# Altium integrated library TI Power Management LDO Single Channel(400-7500mA).IntLib: 1409 symbols (part 60 of 60)
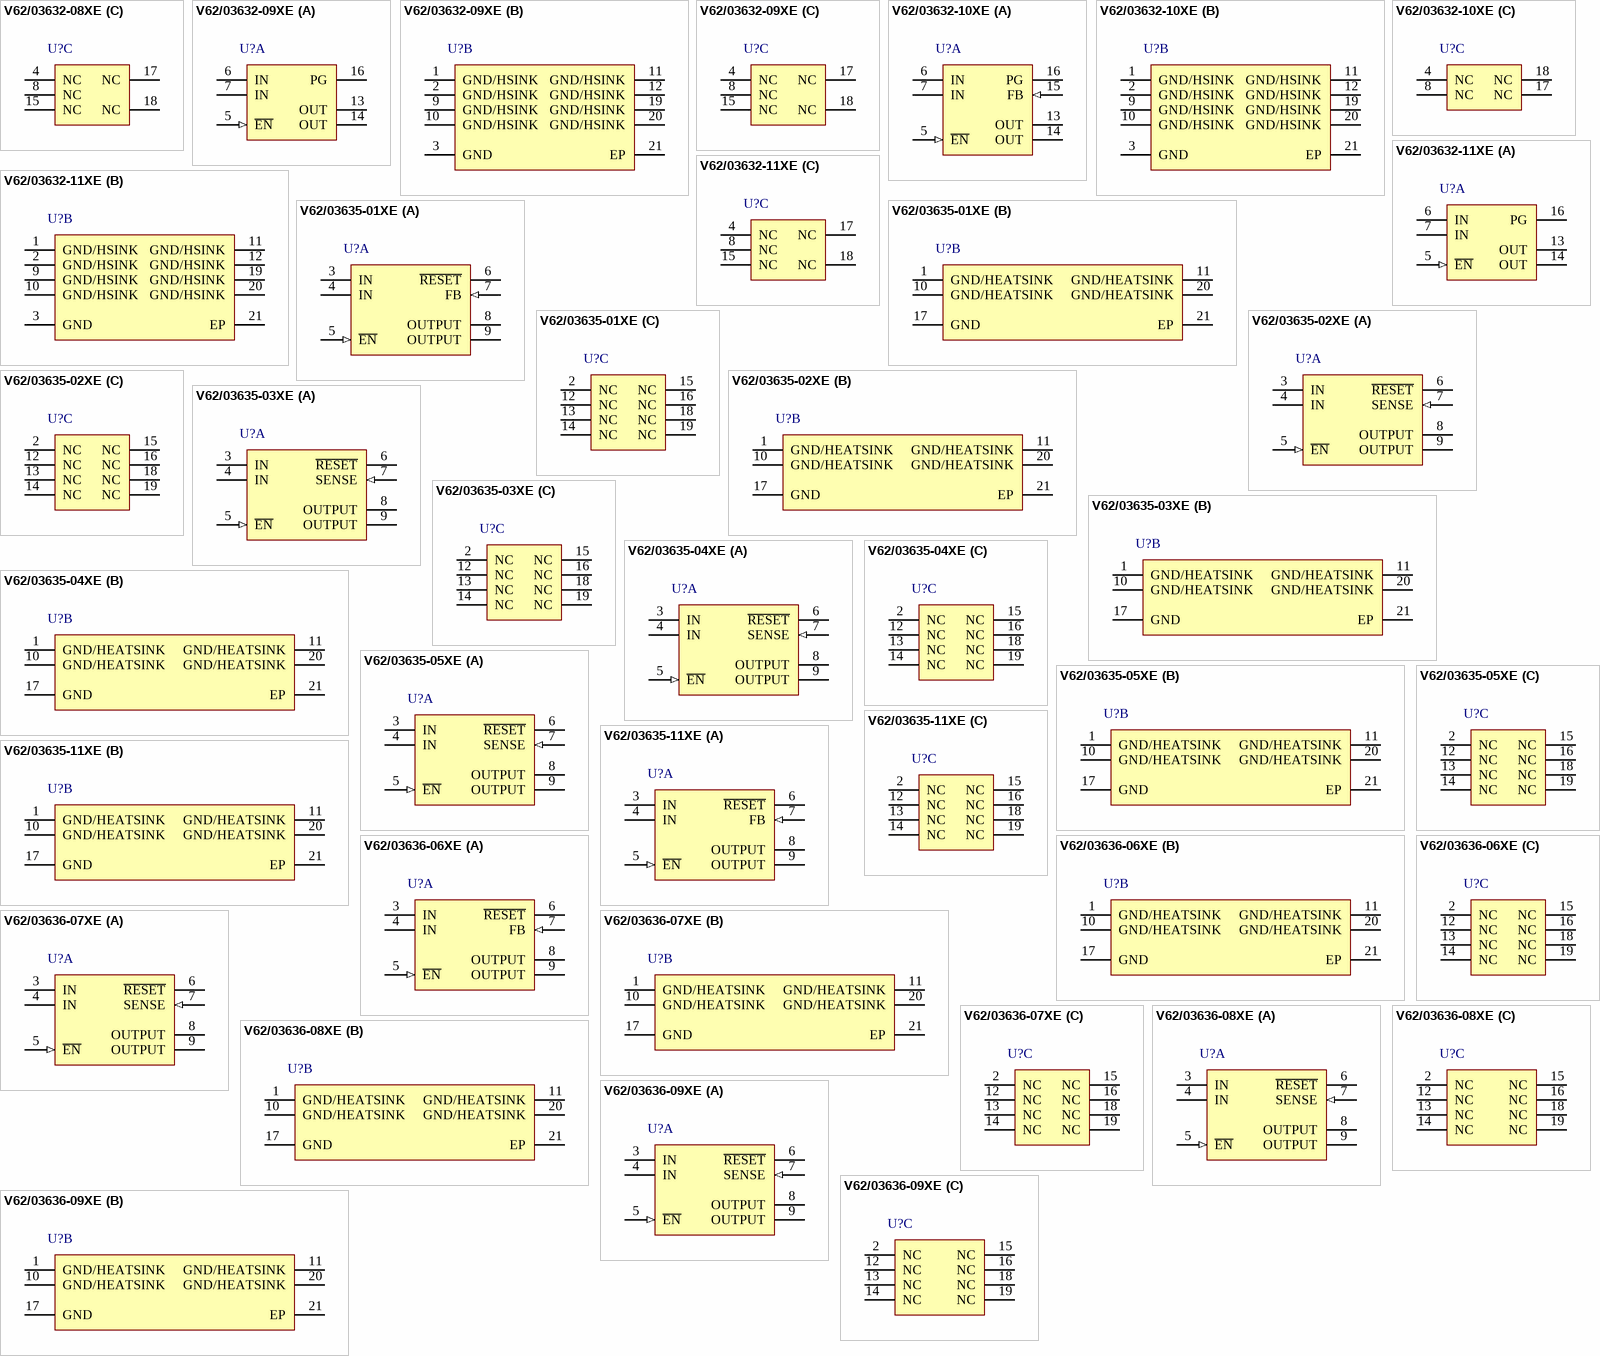
[diagram p109: symbols V62/03632-08XE to V62/03636-09XE]

## V62/03636-06XE
designator U?
Single Output Fast Transient Response LDO, 1.5 A, Adjustable 1.5 to 5 V Output, 2.7 to 5.5 V Input, 20-pin HTSSOP (PWP), -40 to 125 degC, Green (RoHS & no Sb/Br); Manufacturer: Texas Instruments; PartNumber: V62/03636-06XE; Accuracy(%): 2; Iout(Max)(A): 1.5; Iq(Typ)(mA): 0.07; Power Good: TRUE; SubFamily: Single Channel LDO; Vdo(Typ)(mV): 160; Vin(Max)(V): 5.5; Vin(Min)(V): 2.7; Vout Adj(Max)(V): 5; DatasheetVersion: SGLS158; PackageVersion: 4073225-4/1; PackageReference: PWP20-2675X1950TP; PackageDescription: 20-Pin Plastic Small Outline, Body 4.4 x 6.5 mm, Pitch 0.65 mm; Supplier 1: Newark; Supplier Part Number 1: 46M1482; Supplier 2: Mouser; Supplier Part Number 2: 595-V62/03636-06XE; Eco-Plan: Green (RoHS & no Sb/Br); Vout Adj(Min)(V): 1.5; Mounting Technology: Surface Mount; Code_JEDEC: MO-153; ComponentLink1Description: Manufacturer URL; ComponentLink1URL: http://www.ti.com/; ComponentLink2Description: Datasheet; ComponentLink2URL: http://www.ti.com/general/docs/lit/getliterature.tsp?genericPartNumber=TPS75301-EP&fileType=pdf; ComponentLink3Description: Package Specification; ComponentLink3URL: http://www.ti.com/litv/pdf/mhts001g
footprint TI-PWP20-2675X1950TP_N (SOP, 20-Leads, Body 6.5x4.4mm, Pitch 1.27mm, Thermal Pad 2.675x1.95 mm, IPC Medium Density)
footprint TI-PWP20-2675X1950TP_L (SOP, 20-Leads, Body 6.5x4.4mm, Pitch 1.27mm, Thermal Pad 2.675x1.95 mm, IPC High Density)
footprint TI-PWP20-2675X1950TP_M (SOP, 20-Leads, Body 6.5x4.4mm, Pitch 1.27mm, Thermal Pad 2.675x1.95 mm, IPC Low Density)
part A pins: 3 IN (power) "Input voltage", 4 IN (power) "Input voltage", 5 ~{EN} (in) "Enable Input", 6 ~{RESET} (hiz) "R\e\s\e\t\ output", 7 FB (in) "Feedback input voltage for adjustable device", 8 OUTPUT (power) "Regulated output voltage", 9 OUTPUT (power) "Regulated output voltage"
part B pins: 1 GND/HEATSINK (power) "Ground/heatsink", 10 GND/HEATSINK (power) "Ground/heatsink", 11 GND/HEATSINK (power) "Ground/heatsink", 17 GND (power) "Regulator Ground", 20 GND/HEATSINK (power) "Ground/heatsink", 21 EP (power) "Exposed Thermal Pad"
part C pins: 2 NC "Not connected", 12 NC "Not connected", 13 NC "Not connected", 14 NC "Not connected", 15 NC "Not connected", 16 NC "Not connected", 18 NC "Not connected", 19 NC "Not connected"

## V62/03636-07XE
designator U?
Single Output Fast Transient Response LDO, 1.5 A, Fixed 1.5 V Output, 2.7 to 5.5 V Input, 20-pin HTSSOP (PWP), -40 to 125 degC, Green (RoHS & no Sb/Br); Manufacturer: Texas Instruments; PartNumber: V62/03636-07XE; Accuracy(%): 2; Fixed Output Options(V): 1.5; Iq(Typ)(mA): 0.07; Power Good: TRUE; SubFamily: Single Channel LDO; Vdo(Typ)(mV): 160; Vin(Max)(V): 5.5; Vin(Min)(V): 2.7; DatasheetVersion: SGLS158; PackageVersion: 4073225-4/1; PackageReference: PWP20-2675X1950TP; PackageDescription: 20-Pin Plastic Small Outline, Body 4.4 x 6.5 mm, Pitch 0.65 mm; Supplier 1: Mouser; Supplier Part Number 1: 595-V62/03636-07XE; Eco-Plan: Green (RoHS & no Sb/Br); Iout(Max)(A): 1.5; Vout Adj(Max)(V): 1.5; Vout Adj(Min)(V): 1.5; Mounting Technology: Surface Mount; Code_JEDEC: MO-153; ComponentLink1Description: Manufacturer URL; ComponentLink1URL: http://www.ti.com/; ComponentLink2Description: Datasheet; ComponentLink2URL: http://www.ti.com/general/docs/lit/getliterature.tsp?genericPartNumber=TPS75315-EP&fileType=pdf; ComponentLink3Description: Package Specification; ComponentLink3URL: http://www.ti.com/litv/pdf/mhts001g
footprint TI-PWP20-2675X1950TP_N (SOP, 20-Leads, Body 6.5x4.4mm, Pitch 1.27mm, Thermal Pad 2.675x1.95 mm, IPC Medium Density)
footprint TI-PWP20-2675X1950TP_L (SOP, 20-Leads, Body 6.5x4.4mm, Pitch 1.27mm, Thermal Pad 2.675x1.95 mm, IPC High Density)
footprint TI-PWP20-2675X1950TP_M (SOP, 20-Leads, Body 6.5x4.4mm, Pitch 1.27mm, Thermal Pad 2.675x1.95 mm, IPC Low Density)
part A pins: 3 IN (power) "Input voltage", 4 IN (power) "Input voltage", 5 ~{EN} (in) "Enable Input", 6 ~{RESET} (hiz) "R\e\s\e\t\ output", 7 SENSE (in) "sense input for fixed-voltage option", 8 OUTPUT (power) "Regulated output voltage", 9 OUTPUT (power) "Regulated output voltage"
part B pins: 1 GND/HEATSINK (power) "Ground/heatsink", 10 GND/HEATSINK (power) "Ground/heatsink", 11 GND/HEATSINK (power) "Ground/heatsink", 17 GND (power) "Regulator Ground", 20 GND/HEATSINK (power) "Ground/heatsink", 21 EP "Exposed Thermal Pad"
part C pins: 2 NC "Not connected", 12 NC "Not connected", 13 NC "Not connected", 14 NC "Not connected", 15 NC "Not connected", 16 NC "Not connected", 18 NC "Not connected", 19 NC "Not connected"

## V62/03636-08XE
designator U?
Single Output Fast Transient Response LDO, 1.5 A, Fixed 1.8 V Output, 2.7 to 5.5 V Input, 20-pin HTSSOP (PWP), -40 to 125 degC, Green (RoHS & no Sb/Br); Manufacturer: Texas Instruments; PartNumber: V62/03636-08XE; Accuracy(%): 2; Fixed Output Options(V): 1.8; Iout(Max)(A): 1.5; Iq(Typ)(mA): 0.07; Power Good: TRUE; SubFamily: Single Channel LDO; Vdo(Typ)(mV): 160; Vin(Max)(V): 5.5; Vin(Min)(V): 2.7; DatasheetVersion: SGLS158; PackageVersion: 4073225-4/1; PackageReference: PWP20-2675X1950TP; PackageDescription: 20-Pin Plastic Small Outline, Body 4.4 x 6.5 mm, Pitch 0.65 mm; Supplier 1: Mouser; Supplier Part Number 1: 595-V62/03636-08XE; Eco-Plan: Green (RoHS & no Sb/Br); Vout Adj(Max)(V): 1.8; Vout Adj(Min)(V): 1.8; Mounting Technology: Surface Mount; Code_JEDEC: MO-153; ComponentLink1Description: Manufacturer URL; ComponentLink1URL: http://www.ti.com/; ComponentLink2Description: Datasheet; ComponentLink2URL: http://www.ti.com/general/docs/lit/getliterature.tsp?genericPartNumber=TPS75318-EP&fileType=pdf; ComponentLink3Description: Package Specification; ComponentLink3URL: http://www.ti.com/litv/pdf/mhts001g
footprint TI-PWP20-2675X1950TP_N (SOP, 20-Leads, Body 6.5x4.4mm, Pitch 1.27mm, Thermal Pad 2.675x1.95 mm, IPC Medium Density)
footprint TI-PWP20-2675X1950TP_L (SOP, 20-Leads, Body 6.5x4.4mm, Pitch 1.27mm, Thermal Pad 2.675x1.95 mm, IPC High Density)
footprint TI-PWP20-2675X1950TP_M (SOP, 20-Leads, Body 6.5x4.4mm, Pitch 1.27mm, Thermal Pad 2.675x1.95 mm, IPC Low Density)
part A pins: 3 IN (power) "Input voltage", 4 IN (power) "Input voltage", 5 ~{EN} (in) "Enable Input", 6 ~{RESET} (hiz) "Reset output", 7 SENSE (in) "Sense input for fixed options", 8 OUTPUT (power) "Regulated output voltage", 9 OUTPUT (power) "Regulated output voltage"
part B pins: 1 GND/HEATSINK (power) "Ground/heatsink", 10 GND/HEATSINK (power) "Ground/heatsink", 11 GND/HEATSINK (power) "Ground/heatsink", 17 GND (power) "Regulator Ground", 20 GND/HEATSINK (power) "Ground/heatsink", 21 EP (power) "Exposed pad"
part C pins: 2 NC "No connection", 12 NC "No connection", 13 NC "No connection", 14 NC "No connection", 15 NC "No connection", 16 NC "No connection", 18 NC "No connection", 19 NC "No connection"

## V62/03636-09XE
designator U?
Single Output Fast Transient Response LDO, 1.5 A, Fixed 2.5 V Output, 2.7 to 5.5 V Input, 20-pin HTSSOP (PWP), -40 to 125 degC, Green (RoHS & no Sb/Br); Manufacturer: Texas Instruments; PartNumber: V62/03636-09XE; Accuracy(%): 2; Fixed Output Options(V): 2.5; Iout(Max)(A): 1.5; Iq(Typ)(mA): 0.07; Power Good: TRUE; SubFamily: Single Channel LDO; Vdo(Typ)(mV): 160; Vin(Max)(V): 5.5; Vin(Min)(V): 2.7; DatasheetVersion: SGLS158; PackageVersion: 4073225-4/1; PackageReference: PWP20-2675X1950TP; PackageDescription: 20-Pin Plastic Small Outline, Body 4.4 x 6.5 mm, Pitch 0.65 mm; Supplier 1: Newark; Supplier Part Number 1: 46M1485; Supplier 2: Mouser; Supplier Part Number 2: 595-V62/03636-09XE; Eco-Plan: Green (RoHS & no Sb/Br); Vout Adj(Max)(V): 2.5; Vout Adj(Min)(V): 2.5; Mounting Technology: Surface Mount; Code_JEDEC: MO-153; ComponentLink1Description: Manufacturer URL; ComponentLink1URL: http://www.ti.com/; ComponentLink2Description: Datasheet; ComponentLink2URL: http://www.ti.com/general/docs/lit/getliterature.tsp?genericPartNumber=TPS75325-EP&fileType=pdf; ComponentLink3Description: Package Specification; ComponentLink3URL: http://www.ti.com/litv/pdf/mhts001g
footprint TI-PWP20-2675X1950TP_N (SOP, 20-Leads, Body 6.5x4.4mm, Pitch 1.27mm, Thermal Pad 2.675x1.95 mm, IPC Medium Density)
footprint TI-PWP20-2675X1950TP_L (SOP, 20-Leads, Body 6.5x4.4mm, Pitch 1.27mm, Thermal Pad 2.675x1.95 mm, IPC High Density)
footprint TI-PWP20-2675X1950TP_M (SOP, 20-Leads, Body 6.5x4.4mm, Pitch 1.27mm, Thermal Pad 2.675x1.95 mm, IPC Low Density)
part A pins: 3 IN (power) "Input voltage", 4 IN (power) "Input voltage", 5 ~{EN} (in) "Enable Input", 6 ~{RESET} (hiz) "Reset output", 7 SENSE (in) "Sense input for fixed options", 8 OUTPUT (power) "Regulated output voltage", 9 OUTPUT (power) "Regulated output voltage"
part B pins: 1 GND/HEATSINK (power) "Ground/heatsink", 10 GND/HEATSINK (power) "Ground/heatsink", 11 GND/HEATSINK (power) "Ground/heatsink", 17 GND (power) "Regulator Ground", 20 GND/HEATSINK (power) "Ground/heatsink", 21 EP (power) "Exposed pad"
part C pins: 2 NC "No connection", 12 NC "No connection", 13 NC "No connection", 14 NC "No connection", 15 NC "No connection", 16 NC "No connection", 18 NC "No connection", 19 NC "No connection"

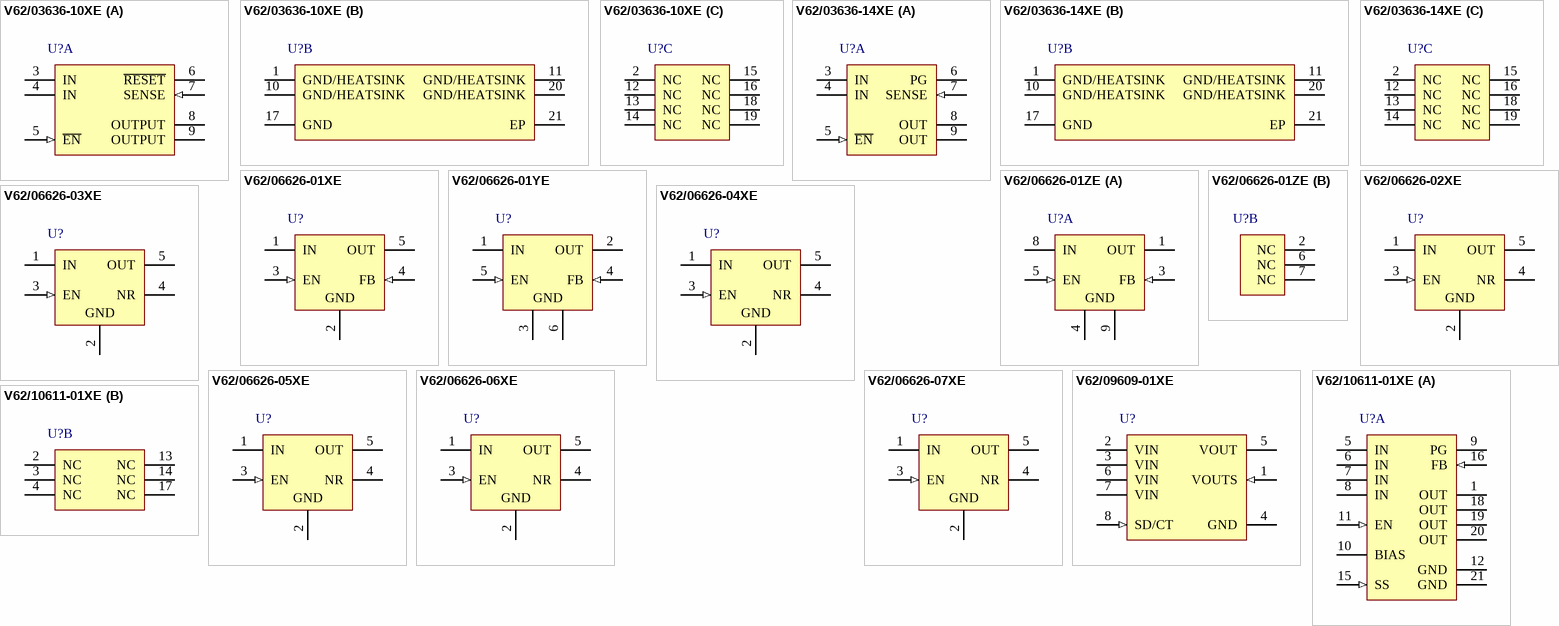
[diagram p50: symbols V62/03636-10XE to V62/10611-01XE]

## V62/03636-10XE
designator U?
Single Output Fast Transient Response LDO, 1.5 A, Fixed 3.3 V Output, 2.7 to 5.5 V Input, 20-pin HTSSOP (PWP), -40 to 125 degC, Green (RoHS & no Sb/Br); Manufacturer: Texas Instruments; PartNumber: V62/03636-10XE; Accuracy(%): 2; Fixed Output Options(V): 3.3; Iout(Max)(A): 1.5; Iq(Typ)(mA): 0.07; Power Good: TRUE; SubFamily: Single Channel LDO; Vdo(Typ)(mV): 160; Vin(Max)(V): 5.5; Vin(Min)(V): 2.7; DatasheetVersion: SGLS158; PackageVersion: 4073225-4/1; PackageReference: PWP20-2675X1950TP; PackageDescription: 20-Pin Plastic Small Outline, Body 4.4 x 6.5 mm, Pitch 0.65 mm; Supplier 1: Newark; Supplier Part Number 1: 46M1486; Supplier 2: Mouser; Supplier Part Number 2: 595-V62/03636-10XE; Eco-Plan: Green (RoHS & no Sb/Br); Vout Adj(Max)(V): 3.3; Vout Adj(Min)(V): 3.3; Mounting Technology: Surface Mount; Code_JEDEC: MO-153; ComponentLink1Description: Manufacturer URL; ComponentLink1URL: http://www.ti.com/; ComponentLink2Description: Datasheet; ComponentLink2URL: http://www.ti.com/general/docs/lit/getliterature.tsp?genericPartNumber=TPS75333-EP&fileType=pdf; ComponentLink3Description: Package Specification; ComponentLink3URL: http://www.ti.com/litv/pdf/mhts001g
footprint TI-PWP20-2675X1950TP_N (SOP, 20-Leads, Body 6.5x4.4mm, Pitch 1.27mm, Thermal Pad 2.675x1.95 mm, IPC Medium Density)
footprint TI-PWP20-2675X1950TP_L (SOP, 20-Leads, Body 6.5x4.4mm, Pitch 1.27mm, Thermal Pad 2.675x1.95 mm, IPC High Density)
footprint TI-PWP20-2675X1950TP_M (SOP, 20-Leads, Body 6.5x4.4mm, Pitch 1.27mm, Thermal Pad 2.675x1.95 mm, IPC Low Density)
part A pins: 3 IN (power) "Input voltage", 4 IN (power) "Input voltage", 5 ~{EN} (in) "Enable Input", 6 ~{RESET} (hiz) "R\e\s\e\t\ output", 7 SENSE (in) "sense input for fixed-voltage option", 8 OUTPUT (power) "Regulated output voltage", 9 OUTPUT (power) "Regulated output voltage"
part B pins: 1 GND/HEATSINK (power) "Ground/heatsink", 10 GND/HEATSINK (power) "Ground/heatsink", 11 GND/HEATSINK (power) "Ground/heatsink", 17 GND (power) "Regulator Ground", 20 GND/HEATSINK (power) "Ground/heatsink", 21 EP "Exposed Thermal Pad"
part C pins: 2 NC "Not connected", 12 NC "Not connected", 13 NC "Not connected", 14 NC "Not connected", 15 NC "Not connected", 16 NC "Not connected", 18 NC "Not connected", 19 NC "Not connected"

## V62/03636-14XE
designator U?
Single Output Fast Transient Response LDO, 1.5 A, Fixed 2.5 V Output, 2.7 to 5.5 V Input, 20-pin HTSSOP (PWP), -55 to 125 degC, Green (RoHS & no Sb/Br); Manufacturer: Texas Instruments; PartNumber: V62/03636-14XE; Accuracy(%): 2; Fixed Output Options(V): 2.5; Iout(Max)(A): 1.5; Iq(Typ)(mA): 0.07; Power Good: TRUE; SubFamily: Single Channel LDO; Vdo(Typ)(mV): 160; Vin(Max)(V): 5.5; Vin(Min)(V): 2.7; DatasheetVersion: SGLS330B; PackageVersion: 4073225-4/1; PackageReference: PWP20-2675X1950TP; PackageDescription: 20-Pin Plastic Small Outline, Body 4.4 x 6.5 mm, Pitch 0.65 mm; Supplier 1: Newark; Supplier Part Number 1: 46M1487; Supplier 2: Mouser; Supplier Part Number 2: 595-V62/03636-14XE; Eco-Plan: Green (RoHS & no Sb/Br); Vout Adj(Max)(V): 2.5; Vout Adj(Min)(V): 2.5; Mounting Technology: Surface Mount; Code_JEDEC: MO-153; ComponentLink1Description: Manufacturer URL; ComponentLink1URL: http://www.ti.com/; ComponentLink2Description: Datasheet; ComponentLink2URL: http://www.ti.com/general/docs/lit/getliterature.tsp?genericPartNumber=TPS75125-EP&fileType=pdf; ComponentLink3Description: Package Specification; ComponentLink3URL: http://www.ti.com/litv/pdf/mhts001g
footprint TI-PWP20-2675X1950TP_N (SOP, 20-Leads, Body 6.5x4.4mm, Pitch 1.27mm, Thermal Pad 2.675x1.95 mm, IPC Medium Density)
footprint TI-PWP20-2675X1950TP_L (SOP, 20-Leads, Body 6.5x4.4mm, Pitch 1.27mm, Thermal Pad 2.675x1.95 mm, IPC High Density)
footprint TI-PWP20-2675X1950TP_M (SOP, 20-Leads, Body 6.5x4.4mm, Pitch 1.27mm, Thermal Pad 2.675x1.95 mm, IPC Low Density)
part A pins: 3 IN (power) "Input voltage", 4 IN (power) "Input voltage", 5 ~{EN} (in) "Negative polarity enable (E\N\) input", 6 PG (hiz) "Open-drain power-good (PG) output.", 7 SENSE (in) "Sense input for fixed options.", 8 OUT (power) "Regulated output voltage", 9 OUT (power) "Regulated output voltage"
part B pins: 1 GND/HEATSINK (power) "Ground/heatsink", 10 GND/HEATSINK (power) "Ground/heatsink", 11 GND/HEATSINK (power) "Ground/heatsink", 17 GND (power) "Ground", 20 GND/HEATSINK (power) "Ground/heatsink", 21 EP (power) "Exposed Thermal Pad"
part C pins: 2 NC "Not connected", 12 NC "Not connected", 13 NC "Not connected", 14 NC "Not connected", 15 NC "Not connected", 16 NC "Not connected", 18 NC "Not connected", 19 NC "Not connected"

## V62/06626-01XE
designator U?
Single Output LDO, 400 mA, Adjustable 1.2 to 5.5 V Output, 1.7 to 5.5 V Input, with Reverse Current Protection, 5-pin SOT-23 (DBV), -55 to 125 degC, Green (RoHS & no Sb/Br); Manufacturer: Texas Instruments; PartNumber: V62/06626-01XE; Accuracy(%): 1; Iout(Max)(A): 0.4; Iq(Typ)(mA): 0.3; Rating: HiRel Enhanced Product; SubFamily: Single Channel LDO; Vdo(Typ)(mV): 75; Vin(Max)(V): 5.5; Vin(Min)(V): 1.7; Vout Adj(Min)(V): 1.2; DatasheetVersion: SGLS326C; PackageVersion: 4073253-4/K; PackageReference: DBV5; PackageDescription: 5-Pin Plastic Small Outline, Body 1.60 Ã— 2.90 mm, Pitch 0.95 mm; Supplier 1: Newark; Supplier Part Number 1: 46M1819; Supplier 2: Mouser; Supplier Part Number 2: 595-V62/06626-01XE; Eco-Plan: Green (RoHS & no Sb/Br); Vout Adj(Max)(V): 5.5; Mounting Technology: Surface Mount; Code_JEDEC: MO-178; ComponentLink1Description: Manufacturer URL; ComponentLink1URL: http://www.ti.com/; ComponentLink2Description: Datasheet; ComponentLink2URL: http://www.ti.com/general/docs/lit/getliterature.tsp?genericPartNumber=TPS73601-EP&fileType=pdf; ComponentLink3Description: Package Specification; ComponentLink3URL: http://www.ti.com/litv/pdf/mpds018i; ComponentLink4Description: URL Link1; ComponentLink4URL: Samples URL:http://www.ti.com/product/tps73601-ep#samples
footprint TI-DBV5_N (SOT23, 5-Leads, Body 2.9x1.6mm, Pitch 0.95mm, IPC Medium Density)
footprint TI-DBV5_L (SOT23, 5-Leads, Body 2.9x1.6mm, Pitch 0.95mm, IPC High Density)
footprint TI-DBV5_M (SOT23, 5-Leads, Body 2.9x1.6mm, Pitch 0.95mm, IPC Low Density)
pins: 1 IN (power) "Input pin. A small capacitor is needed from this pin to ground to assure stability. Typical input capacitor = 1.0uF. Both input and output capacitor grounds should be tied back to the IC ground with no significant impedance (See Datasheet)", 2 GND (power) "Ground pin.", 3 EN (in) "Driving the enable pin (EN) over 1.2V turns on the regulator. Driving this pin below 0.4V puts the regulator into shutdown mode, reducing operating current to 18nA typical.", 4 FB (in) "Feedback pin (FB) for adjustable versions", 5 OUT (power) "Regulated output voltage pin. A small 1-uF ceramic capacitor is needed from this pin to ground to assure stability.See Input and Output Capacitor Requirements in the Application Information section for more details."

## V62/06626-01YE
designator U?
Single Output LDO, 400 mA, Adjustable 1.2 to 5.5 V Output, 1.7 to 5.5 V Input, with Reverse Current Protection, 6-pin SOT-223 (DCQ), -55 to 125 degC, Green (RoHS & no Sb/Br); Manufacturer: Texas Instruments; PartNumber: V62/06626-01YE; Accuracy(%): 1; Iout(Max)(A): 0.4; Iq(Typ)(mA): 0.3; Rating: HiRel Enhanced Product; SubFamily: Single Channel LDO; Vdo(Typ)(mV): 75; Vin(Max)(V): 5.5; Vin(Min)(V): 1.7; Vout Adj(Min)(V): 1.2; DatasheetVersion: SGLS326C; PackageVersion: 4202109/D; PackageReference: DCQ6; PackageDescription: 6-Pin Plastic Small Outline, Body 3.5 x 6.5 mm, Pitch 1.27 mm; Supplier 1: Mouser; Supplier Part Number 1: 595-V62/06626-01YE; Eco-Plan: Green (RoHS & no Sb/Br); Vout Adj(Max)(V): 5.5; Mounting Technology: Surface Mount; ComponentLink1Description: Manufacturer URL; ComponentLink1URL: http://www.ti.com/; ComponentLink2Description: Datasheet; ComponentLink2URL: http://www.ti.com/general/docs/lit/getliterature.tsp?genericPartNumber=TPS73601-EP&fileType=pdf; ComponentLink3Description: Package Specification; ComponentLink3URL: http://www.ti.com/litv/pdf/mpds098c; ComponentLink4Description: URL Link1; ComponentLink4URL: Samples URL:http://www.ti.com/product/tps73601-ep#samples
footprint TI-DCQ6_N (SOT223, 6-Leads, Body 6.5x3.5mm, Pitch 1.27mm, IPC Medium Density)
footprint TI-DCQ6_L (SOT223, 6-Leads, Body 6.5x3.5mm, Pitch 1.27mm, IPC High Density)
footprint TI-DCQ6_M (SOT223, 6-Leads, Body 6.5x3.5mm, Pitch 1.27mm, IPC Low Density)
pins: 1 IN (power) "Input. Power is supplied to the device through the IN pin. A bypass capacitor is required on this pin if the device is more than six inches away from the main input filter capacitor. In general, the output impedance of a (See Datasheet)", 2 OUT (power) "Output. The output supplies power to the load. A minimum output capacitor (ceramic) of 10 uF is required to prevent oscillations. Larger output capacitors are required for applications with large transient loads to limit (See Datasheet)", 3 GND (power) "Ground", 4 FB (in) "Feedback. This is the input to the error amplifier. This pin is internally clamped to +/-7 V. It has a bias current of 3 uA that flows into the pin. The FB pin voltage is 1.21 V referenced to ground, and the output voltage (See Datasheet)", 5 EN (in) "Enable. The EN pin is used to put the TPS73801 regulators into a low-power shutdown state. The output is off when the EN pin is pulled low. The EN pin can be driven either by 5-V logic or open-collector gate, normally (See Datasheet)", 6 GND (power) "Ground"

## V62/06626-01ZE
designator U?
Single Output LDO, 400 mA, Adjustable 1.2 to 5.5 V Output, 1.7 to 5.5 V Input, with Reverse Current Protection, 8-pin SON (DRB), -55 to 125 degC, Green (RoHS & no Sb/Br); Manufacturer: Texas Instruments; PartNumber: V62/06626-01ZE; Accuracy(%): 1; Iout(Max)(A): 0.4; Iq(Typ)(mA): 0.3; Rating: HiRel Enhanced Product; SubFamily: Single Channel LDO; Vdo(Typ)(mV): 75; Vin(Max)(V): 5.5; Vin(Min)(V): 1.7; Vout Adj(Min)(V): 1.2; DatasheetVersion: SGLS326C; PackageVersion: 4203482-2/K; PackageReference: DRB8-1750X1500TP; PackageDescription: 8-Pin Plastic Small Outline, Body 3 x 3 mm, Pitch 0.65 mm; Supplier 1: Mouser; Supplier Part Number 1: 595-V62/06626-01ZE; Eco-Plan: Green (RoHS & no Sb/Br); Vout Adj(Max)(V): 5.5; Mounting Technology: Surface Mount; ComponentLink1Description: Manufacturer URL; ComponentLink1URL: http://www.ti.com/; ComponentLink2Description: Datasheet; ComponentLink2URL: http://www.ti.com/general/docs/lit/getliterature.tsp?genericPartNumber=TPS73601-EP&fileType=pdf; ComponentLink3Description: Package Specification; ComponentLink3URL: http://www.ti.com/litv/pdf/mpds118h; ComponentLink4Description: URL Link1; ComponentLink4URL: Samples URL:http://www.ti.com/product/tps73601-ep#samples
footprint TI-DRB8-1750X1500TP_V (SON, 8-Leads, Body 3x3mm, Pitch 0.65mm, Thermal Pad 1.50 x 3.8mm)
part A pins: 1 OUT (power) "Output of the regulator. There are no output capacitor requirements for stability.", 3 FB (in) "Adjustable voltage version only-this is the input to the control loop error amplifier, and is used to set the output voltage of the device.", 4 GND (power) "Ground", 5 EN (in) "Driving the enable pin (EN) high turns on the regulator. Driving this pin low puts the regulator into shutdown mode. See the Shutdown section under Applications Information for more details. EN can be connected to IN if not (See Datasheet)", 8 IN (power) "Input supply", 9 GND (power) "Ground"
part B pins: 2 NC "No internal connection", 6 NC "No internal connection", 7 NC "No internal connection"

## V62/06626-02XE
designator U?
Single Output LDO, 400 mA, Fixed 1.5 V Output, 1.7 to 5.5 V Input, with Reverse Current Protection, 5-pin SOT-23 (DBV), -55 to 125 degC, Green (RoHS & no Sb/Br); Manufacturer: Texas Instruments; PartNumber: V62/06626-02XE; Accuracy(%): 1; Fixed Output Options(V): 1.5; Iout(Max)(A): 0.4; Iq(Typ)(mA): 0.3; Rating: HiRel Enhanced Product; SubFamily: Single Channel LDO; Vdo(Typ)(mV): 75; Vin(Max)(V): 5.5; Vin(Min)(V): 1.7; DatasheetVersion: SGLS326C; PackageVersion: 4073253-4/K; PackageReference: DBV5; PackageDescription: 5-Pin Plastic Small Outline, Body 1.60 Ã— 2.90 mm, Pitch 0.95 mm; Supplier 1: Newark; Supplier Part Number 1: 46M1820; Supplier 2: Mouser; Supplier Part Number 2: 595-V62/06626-02XE; Eco-Plan: Green (RoHS & no Sb/Br); Vout Adj(Max)(V): 1.5; Vout Adj(Min)(V): 1.5; Mounting Technology: Surface Mount; Code_JEDEC: MO-178; ComponentLink1Description: Manufacturer URL; ComponentLink1URL: http://www.ti.com/; ComponentLink2Description: Datasheet; ComponentLink2URL: http://www.ti.com/general/docs/lit/getliterature.tsp?genericPartNumber=TPS73615-EP&fileType=pdf; ComponentLink3Description: Package Specification; ComponentLink3URL: http://www.ti.com/litv/pdf/mpds018i; ComponentLink4Description: URL Link1; ComponentLink4URL: Samples URL:http://www.ti.com/product/tps73615-ep#samples
footprint TI-DBV5_N (SOT23, 5-Leads, Body 2.9x1.6mm, Pitch 0.95mm, IPC Medium Density)
footprint TI-DBV5_L (SOT23, 5-Leads, Body 2.9x1.6mm, Pitch 0.95mm, IPC High Density)
footprint TI-DBV5_M (SOT23, 5-Leads, Body 2.9x1.6mm, Pitch 0.95mm, IPC Low Density)
pins: 1 IN (power) "Input supply.", 2 GND (power) "Ground.", 3 EN (in) "Driving the enable pin (EN) high turns on the regulator .Driving this pin low puts the regulator into shutdown mode.EN can be connected to IN if not used.", 4 NR "Fixed voltage versions only; connecting an external capacitor to this pin bypasses noise generated by the internal bandgap. This capacitor allows output noise to be reduced to very low levels.", 5 OUT (power) "Output for the regulator. A small capacitor (total typical capacitance >= 2.0uF ceramic) is needed from this pin to ground to assure stability."

## V62/06626-03XE
designator U?
Single Output LDO, 400 mA, Fixed 1.8 V Output, 1.7 to 5.5 V Input, with Reverse Current Protection, 5-pin SOT-23 (DBV), -55 to 125 degC, Green (RoHS & no Sb/Br); Manufacturer: Texas Instruments; PartNumber: V62/06626-03XE; Accuracy(%): 1; Fixed Output Options(V): 1.8; Iout(Max)(A): 0.4; Iq(Typ)(mA): 0.3; Rating: HiRel Enhanced Product; SubFamily: Single Channel LDO; Vdo(Typ)(mV): 75; Vin(Max)(V): 5.5; Vin(Min)(V): 1.7; DatasheetVersion: SGLS326C; PackageVersion: 4073253-4/K; PackageReference: DBV5; PackageDescription: 5-Pin Plastic Small Outline, Body 1.60 Ã— 2.90 mm, Pitch 0.95 mm; Supplier 1: Newark; Supplier Part Number 1: 46M1821; Supplier 2: Mouser; Supplier Part Number 2: 595-V62/06626-03XE; Eco-Plan: Green (RoHS & no Sb/Br); Vout Adj(Max)(V): 1.8; Vout Adj(Min)(V): 1.8; Mounting Technology: Surface Mount; Code_JEDEC: MO-178; ComponentLink1Description: Manufacturer URL; ComponentLink1URL: http://www.ti.com/; ComponentLink2Description: Datasheet; ComponentLink2URL: http://www.ti.com/general/docs/lit/getliterature.tsp?genericPartNumber=TPS73618-EP&fileType=pdf; ComponentLink3Description: Package Specification; ComponentLink3URL: http://www.ti.com/litv/pdf/mpds018i; ComponentLink4Description: URL Link1; ComponentLink4URL: Samples URL:http://www.ti.com/product/tps73618-ep#samples
footprint TI-DBV5_N (SOT23, 5-Leads, Body 2.9x1.6mm, Pitch 0.95mm, IPC Medium Density)
footprint TI-DBV5_L (SOT23, 5-Leads, Body 2.9x1.6mm, Pitch 0.95mm, IPC High Density)
footprint TI-DBV5_M (SOT23, 5-Leads, Body 2.9x1.6mm, Pitch 0.95mm, IPC Low Density)
pins: 1 IN (power) "Input supply.", 2 GND (power) "Ground.", 3 EN (in) "Driving the enable pin (EN) high turns on the regulator .Driving this pin low puts the regulator into shutdown mode.EN can be connected to IN if not used.", 4 NR "Fixed voltage versions only; connecting an external capacitor to this pin bypasses noise generated by the internal bandgap. This capacitor allows output noise to be reduced to very low levels.", 5 OUT (power) "Output for the regulator. A small capacitor (total typical capacitance >= 2.0uF ceramic) is needed from this pin to ground to assure stability."

## V62/06626-04XE
designator U?
Single Output LDO, 400 mA, Fixed 2.5 V Output, 1.7 to 5.5 V Input, with Reverse Current Protection, 5-pin SOT-23 (DBV), -55 to 125 degC, Green (RoHS & no Sb/Br); Manufacturer: Texas Instruments; PartNumber: V62/06626-04XE; Accuracy(%): 1; Fixed Output Options(V): 2.5; Iout(Max)(A): 0.4; Iq(Typ)(mA): 0.3; Rating: HiRel Enhanced Product; SubFamily: Single Channel LDO; Vdo(Typ)(mV): 75; Vin(Max)(V): 5.5; Vin(Min)(V): 1.7; DatasheetVersion: SGLS326C; PackageVersion: 4073253-4/K; PackageReference: DBV5; PackageDescription: 5-Pin Plastic Small Outline, Body 1.60 Ã— 2.90 mm, Pitch 0.95 mm; Supplier 1: Newark; Supplier Part Number 1: 46M1822; Supplier 2: Mouser; Supplier Part Number 2: 595-V62/06626-04XE; Eco-Plan: Green (RoHS & no Sb/Br); Vout Adj(Max)(V): 2.5; Vout Adj(Min)(V): 2.5; Mounting Technology: Surface Mount; Code_JEDEC: MO-178; ComponentLink1Description: Manufacturer URL; ComponentLink1URL: http://www.ti.com/; ComponentLink2Description: Datasheet; ComponentLink2URL: http://www.ti.com/general/docs/lit/getliterature.tsp?genericPartNumber=TPS73625-EP&fileType=pdf; ComponentLink3Description: Package Specification; ComponentLink3URL: http://www.ti.com/litv/pdf/mpds018i; ComponentLink4Description: URL Link1; ComponentLink4URL: Samples URL:http://www.ti.com/product/tps73625-ep#samples
footprint TI-DBV5_N (SOT23, 5-Leads, Body 2.9x1.6mm, Pitch 0.95mm, IPC Medium Density)
footprint TI-DBV5_L (SOT23, 5-Leads, Body 2.9x1.6mm, Pitch 0.95mm, IPC High Density)
footprint TI-DBV5_M (SOT23, 5-Leads, Body 2.9x1.6mm, Pitch 0.95mm, IPC Low Density)
pins: 1 IN (power) "Input supply.", 2 GND (power) "Ground.", 3 EN (in) "Driving the enable pin (EN) high turns on the regulator .Driving this pin low puts the regulator into shutdown mode.EN can be connected to IN if not used.", 4 NR "Fixed voltage versions only; connecting an external capacitor to this pin bypasses noise generated by the internal bandgap. This capacitor allows output noise to be reduced to very low levels.", 5 OUT (power) "Output for the regulator. A small capacitor (total typical capacitance >= 2.0uF ceramic) is needed from this pin to ground to assure stability."

## V62/06626-05XE
designator U?
Single Output LDO, 400 mA, Fixed 3 V Output, 1.7 to 5.5 V Input, with Reverse Current Protection, 5-pin SOT-23 (DBV), -55 to 125 degC, Green (RoHS & no Sb/Br); Manufacturer: Texas Instruments; PartNumber: V62/06626-05XE; Accuracy(%): 1; Fixed Output Options(V): 3; Iout(Max)(A): 0.4; Iq(Typ)(mA): 0.3; Rating: HiRel Enhanced Product; SubFamily: Single Channel LDO; Vdo(Typ)(mV): 75; Vin(Max)(V): 5.5; Vin(Min)(V): 1.7; DatasheetVersion: SGLS326C; PackageVersion: 4073253-4/K; PackageReference: DBV5; PackageDescription: 5-Pin Plastic Small Outline, Body 1.60 Ã— 2.90 mm, Pitch 0.95 mm; Supplier 1: Newark; Supplier Part Number 1: 46M1823; Supplier 2: Mouser; Supplier Part Number 2: 595-V62/06626-05XE; Eco-Plan: Green (RoHS & no Sb/Br); Vout Adj(Max)(V): 3; Vout Adj(Min)(V): 3; Mounting Technology: Surface Mount; Code_JEDEC: MO-178; ComponentLink1Description: Manufacturer URL; ComponentLink1URL: http://www.ti.com/; ComponentLink2Description: Datasheet; ComponentLink2URL: http://www.ti.com/general/docs/lit/getliterature.tsp?genericPartNumber=TPS73630-EP&fileType=pdf; ComponentLink3Description: Package Specification; ComponentLink3URL: http://www.ti.com/litv/pdf/mpds018i; ComponentLink4Description: URL Link1; ComponentLink4URL: Samples URL:http://www.ti.com/product/tps73630-ep#samples
footprint TI-DBV5_N (SOT23, 5-Leads, Body 2.9x1.6mm, Pitch 0.95mm, IPC Medium Density)
footprint TI-DBV5_L (SOT23, 5-Leads, Body 2.9x1.6mm, Pitch 0.95mm, IPC High Density)
footprint TI-DBV5_M (SOT23, 5-Leads, Body 2.9x1.6mm, Pitch 0.95mm, IPC Low Density)
pins: 1 IN (power) "Input supply.", 2 GND (power) "Ground.", 3 EN (in) "Driving the enable pin (EN) high turns on the regulator .Driving this pin low puts the regulator into shutdown mode.EN can be connected to IN if not used.", 4 NR "Fixed voltage versions only; connecting an external capacitor to this pin bypasses noise generated by the internal bandgap. This capacitor allows output noise to be reduced to very low levels.", 5 OUT (power) "Output for the regulator. A small capacitor (total typical capacitance >= 2.0uF ceramic) is needed from this pin to ground to assure stability."

## V62/06626-06XE
designator U?
Single Output LDO, 400 mA, Fixed 3.2 V Output, 1.7 to 5.5 V Input, with Reverse Current Protection, 5-pin SOT-23 (DBV), -55 to 125 degC, Green (RoHS & no Sb/Br); Manufacturer: Texas Instruments; PartNumber: V62/06626-06XE; Accuracy(%): 1; Fixed Output Options(V): 3.2; Iout(Max)(A): 0.4; Iq(Typ)(mA): 0.3; Rating: HiRel Enhanced Product; SubFamily: Single Channel LDO; Vdo(Typ)(mV): 75; Vin(Max)(V): 5.5; Vin(Min)(V): 1.7; DatasheetVersion: SGLS326C; PackageVersion: 4073253-4/K; PackageReference: DBV5; PackageDescription: 5-Pin Plastic Small Outline, Body 1.60 Ã— 2.90 mm, Pitch 0.95 mm; Supplier 1: Newark; Supplier Part Number 1: 46M1824; Supplier 2: Mouser; Supplier Part Number 2: 595-V62/06626-06XE; Eco-Plan: Green (RoHS & no Sb/Br); Vout Adj(Max)(V): 3.2; Vout Adj(Min)(V): 3.2; Mounting Technology: Surface Mount; Code_JEDEC: MO-178; ComponentLink1Description: Manufacturer URL; ComponentLink1URL: http://www.ti.com/; ComponentLink2Description: Datasheet; ComponentLink2URL: http://www.ti.com/general/docs/lit/getliterature.tsp?genericPartNumber=TPS73632-EP&fileType=pdf; ComponentLink3Description: Package Specification; ComponentLink3URL: http://www.ti.com/litv/pdf/mpds018i; ComponentLink4Description: URL Link1; ComponentLink4URL: Samples URL:http://www.ti.com/product/tps73632-ep#samples
footprint TI-DBV5_N (SOT23, 5-Leads, Body 2.9x1.6mm, Pitch 0.95mm, IPC Medium Density)
footprint TI-DBV5_L (SOT23, 5-Leads, Body 2.9x1.6mm, Pitch 0.95mm, IPC High Density)
footprint TI-DBV5_M (SOT23, 5-Leads, Body 2.9x1.6mm, Pitch 0.95mm, IPC Low Density)
pins: 1 IN (power) "Input supply.", 2 GND (power) "Ground.", 3 EN (in) "Driving the enable pin (EN) high turns on the regulator .Driving this pin low puts the regulator into shutdown mode.EN can be connected to IN if not used.", 4 NR "Fixed voltage versions only; connecting an external capacitor to this pin bypasses noise generated by the internal bandgap. This capacitor allows output noise to be reduced to very low levels.", 5 OUT (power) "Output for the regulator. A small capacitor (total typical capacitance >= 2.0uF ceramic) is needed from this pin to ground to assure stability."

## V62/06626-07XE
designator U?
Single Output LDO, 400 mA, Fixed 3.3 V Output, 1.7 to 5.5 V Input, with Reverse Current Protection, 5-pin SOT-23 (DBV), -55 to 125 degC, Green (RoHS & no Sb/Br); Manufacturer: Texas Instruments; PartNumber: V62/06626-07XE; Accuracy(%): 1; Fixed Output Options(V): 3.3; Iout(Max)(A): 0.4; Iq(Typ)(mA): 0.3; Rating: HiRel Enhanced Product; SubFamily: Single Channel LDO; Vdo(Typ)(mV): 75; Vin(Max)(V): 5.5; Vin(Min)(V): 1.7; DatasheetVersion: SGLS326C; PackageVersion: 4073253-4/K; PackageReference: DBV5; PackageDescription: 5-Pin Plastic Small Outline, Body 1.60 Ã— 2.90 mm, Pitch 0.95 mm; Supplier 1: Mouser; Supplier Part Number 1: 595-V62/06626-07XE; Eco-Plan: Green (RoHS & no Sb/Br); Vout Adj(Max)(V): 3.3; Vout Adj(Min)(V): 3.3; Mounting Technology: Surface Mount; Code_JEDEC: MO-178; ComponentLink1Description: Manufacturer URL; ComponentLink1URL: http://www.ti.com/; ComponentLink2Description: Datasheet; ComponentLink2URL: http://www.ti.com/general/docs/lit/getliterature.tsp?genericPartNumber=TPS73633-EP&fileType=pdf; ComponentLink3Description: Package Specification; ComponentLink3URL: http://www.ti.com/litv/pdf/mpds018i; ComponentLink4Description: URL Link1; ComponentLink4URL: Samples URL:http://www.ti.com/product/tps73633-ep#samples
footprint TI-DBV5_N (SOT23, 5-Leads, Body 2.9x1.6mm, Pitch 0.95mm, IPC Medium Density)
footprint TI-DBV5_L (SOT23, 5-Leads, Body 2.9x1.6mm, Pitch 0.95mm, IPC High Density)
footprint TI-DBV5_M (SOT23, 5-Leads, Body 2.9x1.6mm, Pitch 0.95mm, IPC Low Density)
pins: 1 IN (power) "Input supply.", 2 GND (power) "Ground.", 3 EN (in) "Driving the enable pin (EN) high turns on the regulator .Driving this pin low puts the regulator into shutdown mode.EN can be connected to IN if not used.", 4 NR "Fixed voltage versions only; connecting an external capacitor to this pin bypasses noise generated by the internal bandgap. This capacitor allows output noise to be reduced to very low levels.", 5 OUT (power) "Output for the regulator. A small capacitor (total typical capacitance >= 2.0uF ceramic) is needed from this pin to ground to assure stability."

## V62/09609-01XE
designator U?
Single Output LDO, 500 mA, Fixed -5 V Output, -3.2 to -15 V Input, with Low IQ, 8-pin SOIC (D), -55 to 100 degC, Green (RoHS & no Sb/Br); Manufacturer: Texas Instruments; PartNumber: V62/09609-01XE; Accuracy(%): 2.5; Iout(Max)(A): 0.5; Iq(Typ)(mA): 0.2; SubFamily: Single Channel LDO; Vdo(Typ)(mV): 150; DatasheetVersion: SLVS862A; PackageVersion: 4040047-3/M; PackageReference: D8; PackageDescription: 8-Pin Plastic Small Outline, Body 4.9 x 3.9 mm, Pitch 1.27 mm; Supplier 1: Mouser; Supplier Part Number 1: 595-V62/09609-01XE; Eco-Plan: Green (RoHS & no Sb/Br); Vin(Max)(V): -15; Vin(Min)(V): -3.2; Vout Adj(Max)(V): -5; Vout Adj(Min)(V): -5; Mounting Technology: Surface Mount; Code_JEDEC: MS-012; ComponentLink1Description: Manufacturer URL; ComponentLink1URL: http://www.ti.com/; ComponentLink2Description: Datasheet; ComponentLink2URL: http://www.ti.com/general/docs/lit/getliterature.tsp?genericPartNumber=UCC284-EP&fileType=pdf; ComponentLink3Description: Package Specification; ComponentLink3URL: http://www.ti.com/litv/pdf/msoi002j
footprint TI-D8_N (SOIC, 8-Leads, Body 4.9x3.9mm, Pitch 1.27mm, IPC Medium Density)
footprint TI-D8_L (SOIC, 8-Leads, Body 4.9x3.9mm, Pitch 1.27mm, IPC High Density)
footprint TI-D8_M (SOIC, 8-Leads, Body 4.9x3.9mm, Pitch 1.27mm, IPC Low Density)
pins: 1 VOUTS (in) "This is the feedback pin for sensing the output of the regulator.", 2 VIN (power) "This is the negative input supply.", 3 VIN (power) "This is the negative input supply.", 4 GND (power) "This is the low noise ground reference input. All voltages are measured with respect to the GND pin.", 5 VOUT (power) "Regulated negative-output voltage.", 6 VIN (power) "This is the negative input supply.", 7 VIN (power) "This is the negative input supply.", 8 SD/CT (in) "This is the shutdown pin and also the short-circuit timing pin. Pulling this pin more positive than -0.7 V puts the circuit in a low-current shutdown mode. Placing a timing capacitor between this pin and GND sets the (See Datasheet)"

## V62/10611-01XE
designator U?
Single Output Fast Transient Response LDO, 3 A, Adjustable 0.8 to 3.6 V Output, 0.8 to 5.5 V Input, with Programmable Soft Start, 20-pin VQFN (RGW), -55 to 125 degC, Green (RoHS & no Sb/Br); Manufacturer: Texas Instruments; PartNumber: V62/10611-01XE; Accuracy(%): 1; Iout(Max)(A): 3; Power Good: TRUE; Rating: HiRel Enhanced Product; SubFamily: Single Channel LDO; Vdo(Typ)(mV): 115; Vin(Max)(V): 5.5; Vin(Min)(V): 0.8; Vout Adj(Max)(V): 3.6; DatasheetVersion: SBVS122B; PackageReference: RGW20-3150X3150TP; PackageDescription: 20-Pin Plastic Quad Flat No-Pin, 5 x 5 mm Body, 0.65 mm Pitch, 3.15 x 3.15 mm Exposed Pad; Supplier 1: Mouser; Supplier Part Number 1: 595-V62/10611-01XE; Eco-Plan: Green (RoHS & no Sb/Br); Iq(Typ)(mA): 3; Vout Adj(Min)(V): 0.8; Mounting Technology: Surface Mount; Code_JEDEC: MO-220; ComponentLink1Description: Manufacturer URL; ComponentLink1URL: http://www.ti.com/; ComponentLink2Description: Datasheet; ComponentLink2URL: http://www.ti.com/general/docs/lit/getliterature.tsp?genericPartNumber=TPS74401-EP&fileType=pdf; ComponentLink3Description: Package Specification; ComponentLink3URL: http://www.ti.com/litv/pdf/mpqf122b
footprint TI-RGW20-3150X3150TP_V (QFN, 20-Leads, Body 5x5mm, Pitch 0.65mm, Thermal Pad 3.15x3.15mm)
part A pins: 1 OUT (power) "Regulated output voltage. No capacitor is required on this pin for stability.", 5 IN (power) "Unregulated input to the device.", 6 IN (power) "Unregulated input to the device.", 7 IN (power) "Unregulated input to the device.", 8 IN (power) "Unregulated input to the device.", 9 PG (hiz) "Power-Good (PG) is an open-drain, active-high output that indicates the status of VOUT. When VOUT exceeds the PG trip threshold, the PG pin goes into a high-impedance state. When VOUT is below this threshold the pin is (See Datasheet)", 10 BIAS (power) "Bias input voltage for error amplifier, reference, and internal control circuits.", 11 EN (in) "Enable pin. Driving this pin high enables the regulator. Driving this pin low puts the regulator into shutdown mode. This pin must not be left floating.", 12 GND (power) "Ground", 15 SS (in) "Soft-Start pin. A capacitor connected on this pin to ground sets the start-up time. If this pin is left floating, the regulator output soft-start ramp time is typically 100us.", 16 FB (in) "This pin is the feedback connection to the center tap of an external resistor divider network that sets the output voltage. This pin must not be left floating.", 18 OUT (power) "Regulated output voltage. No capacitor is required on this pin for stability.", 19 OUT (power) "Regulated output voltage. No capacitor is required on this pin for stability.", 20 OUT (power) "Regulated output voltage. No capacitor is required on this pin for stability.", 21 GND (power) "Should be soldered to the ground plane for increased thermal performance."
part B pins: 2 NC "No connection. This pin can be left floating or connected to GND to allow better thermal contact to the top-side plane.", 3 NC "No connection. This pin can be left floating or connected to GND to allow better thermal contact to the top-side plane.", 4 NC "No connection. This pin can be left floating or connected to GND to allow better thermal contact to the top-side plane.", 13 NC "No connection. This pin can be left floating or connected to GND to allow better thermal contact to the top-side plane.", 14 NC "No connection. This pin can be left floating or connected to GND to allow better thermal contact to the top-side plane.", 17 NC "No connection. This pin can be left floating or connected to GND to allow better thermal contact to the top-side plane."